# EAGLE library part TPS54202 (library ovms_lilygo)
Buck Converter TPS54202
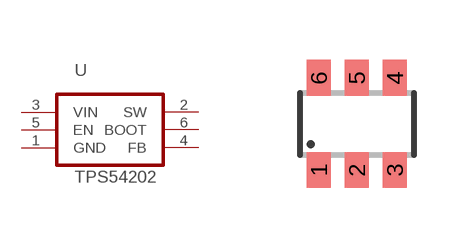
[diagram p7: symbol with the pads of SOT23-6; footprint SOT23-6]

Designator prefix -

## TPS54202  [SOT23-6]
1  GND
2  SW
3  VIN
4  FB
5  EN
6  BOOT

## Footprint SOT23-6 (pad centres in mm)
Small Outline Transistor 6 lead
smd 0.6 x 0.9: 1 -0.95,-1.15; 2 0,-1.15; 3 0.95,-1.15; 4 0.95,1.15; 5 0,1.15; 6 -0.95,1.15